# Altium footprint library VLCF5024T-100MR88-2.PcbLib: 1 footprints
Each footprint in its own frame and in the unit in brackets; x right, y up, seen from the top. Pads: shape width x height; smd on the part's side, far side on the other; paste and mask are expansions set on the pad; w line width, h text height; cw(c..) or ccw(c..) is an arc to the next point about the centre after c.
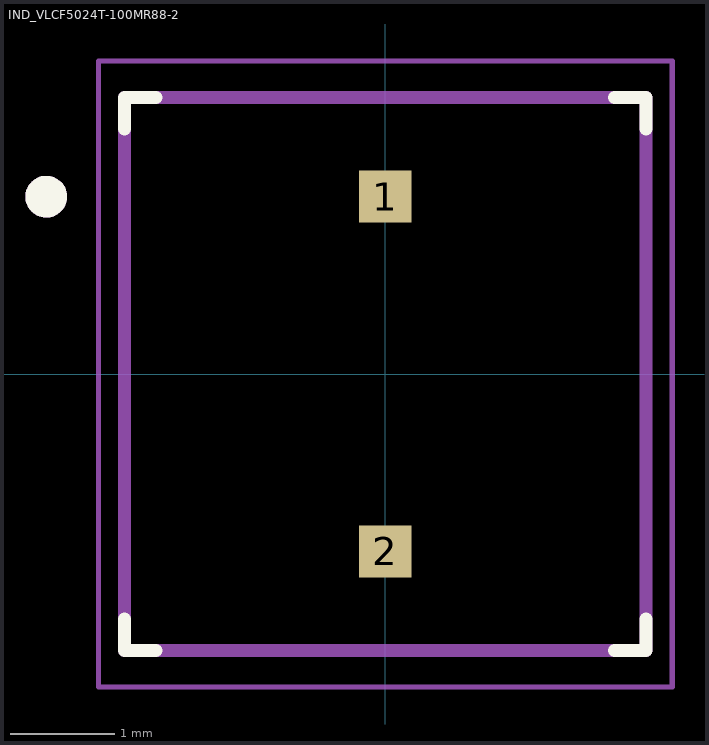
[diagram p0: the footprint, top view; thin cyan lines are the x and y axes]

## IND_VLCF5024T-100MR88-2 [mm]
pads (2):
  rect 0.5x0.5 smd paste-1 mask+0: 1(0,1.7) 2(0,-1.7)
Top Overlay:
  circle w0.2: c-3.25,1.7 r0.1
  lines w0.127: -2.5,-2.35 -2.5,-2.65 -2.2,-2.65 ; -2.5,2.35 -2.5,2.65 -2.2,2.65 ; 2.2,-2.65 2.5,-2.65 2.5,-2.35 ; 2.2,2.65 2.5,2.65 2.5,2.35
Mechanical 13:
  circle w0.2: c-3.25,1.7 r0.1
  lines w0.127: -2.5,-2.65 2.5,-2.65 2.5,2.65 -2.5,2.65 -2.5,-2.65
Mechanical 15:
  lines w0.05: -2.75,-3 2.75,-3 2.75,3 -2.75,3 -2.75,-3
3D body "step_temp.STEP": height 2.4, standoff 0, extent -2.5,-2.5 2.5,2.5